# Altium integrated library GeneralConnectors.IntLib: 11 symbols
Pins are listed as number, name and electrical type; pins without a type are passive.

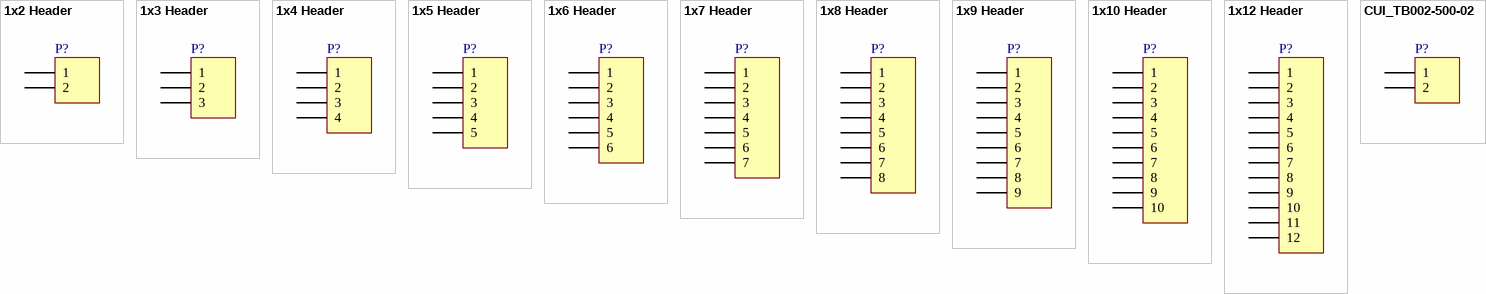
[diagram p0: symbols 1x2 Header to CUI_TB002-500-02]

## 1x2 Header
designator P?
1x2 Pin Header
signal-integrity model Connector
footprint HDR1X2 (Connector; Header; 2 Position)
pins: 1, 2

## 1x3 Header
designator P?
1x3 Pin Header
signal-integrity model Connector
footprint HDR1X3 (Connector; Header; 3 Position)
pins: 1, 2, 3

## 1x4 Header
designator P?
1x4 Pin Header
signal-integrity model Connector
footprint HDR1X4 (Connector; Header; 4 Position)
pins: 1, 2, 3, 4

## 1x5 Header
designator P?
1x5 Pin Header
signal-integrity model Connector
footprint HDR1X5 (Connector; Header; 5 Position)
pins: 1, 2, 3, 4, 5

## 1x6 Header
designator P?
1x6 Pin Header
signal-integrity model Connector
footprint HDR1X6 (Connector; Header; 6 Position)
pins: 1, 2, 3, 4, 5, 6

## 1x7 Header
designator P?
1x7 Pin Header
signal-integrity model Connector
footprint HDR1X7 (Connector; Header; 7 Position)
pins: 1, 2, 3, 4, 5, 6, 7

## 1x8 Header
designator P?
1x8 Pin Header
signal-integrity model Connector
footprint HDR1X8 (Connector; Header; 8 Position)
pins: 1, 2, 3, 4, 5, 6, 7, 8

## 1x9 Header
designator P?
1x9 Pin Header
signal-integrity model Connector
footprint HDR1X9 (Connector; Header; 9 Position)
pins: 1, 2, 3, 4, 5, 6, 7, 8, 9

## 1x10 Header
designator P?
1x10 Pin Header
signal-integrity model Connector
footprint HDR1X10 (Connector; Header; 10 Position)
pins: 1, 2, 3, 4, 5, 6, 7, 8, 9, 10

## 1x12 Header
designator P?
1x12 Pin Header
signal-integrity model Connector
footprint HDR1X12 (Connector; Header; 12 Position)
pins: 1, 2, 3, 4, 5, 6, 7, 8, 9, 10, 11, 12

## CUI_TB002-500-02
designator P?
1x2 Screw Terminal Block; Manufacturer: CUI Devices; Manufacturer Part Number: TB002-500-02BE; Supplier: Digikey; Supplier Part Number: 102-6145-ND
signal-integrity model Connector
footprint CUI_TB002-500-02 (1x2 Screw Terminal Block)
pins: 1, 2